# Altium footprint library ADTSM32RVTR.PcbLib: 1 footprints
Each footprint in its own frame and in the unit in brackets; x right, y up, seen from the top. Pads: shape width x height; smd on the part's side, far side on the other; paste and mask are expansions set on the pad; w line width, h text height; cw(c..) or ccw(c..) is an arc to the next point about the centre after c.
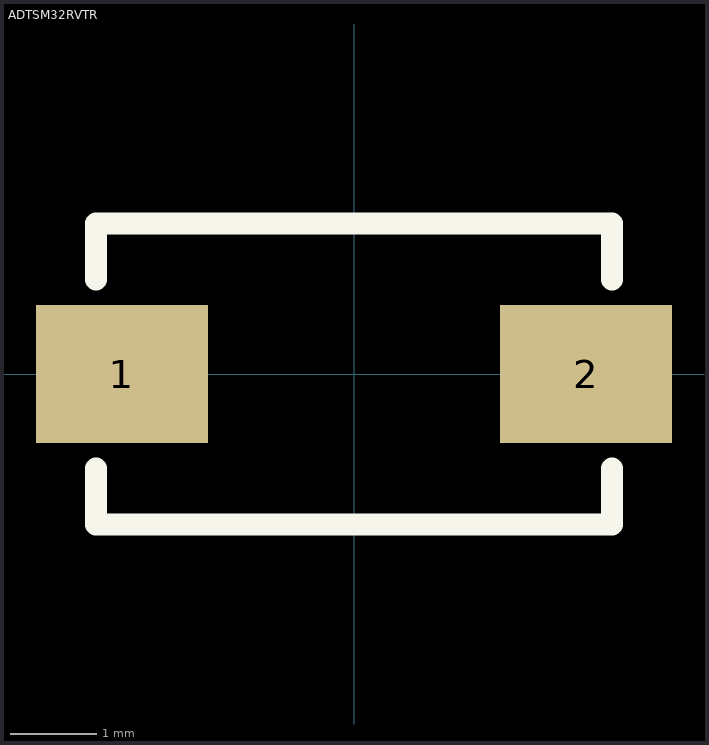
[diagram p0: the footprint, top view; thin cyan lines are the x and y axes]

## ADTSM32RVTR [mm] "ADTSM32RVTR SWITCH, TACTILE, SPST-NO, 50mA, 12VDC SMD"
pads (2):
  rect 2x1.6 smd: 1(-2.7,0) 2(2.7,0)
Top Overlay:
  lines w0.254: -3,-1.1 -3,-1.75 3,-1.75 3,-1.1 ; -3,1.1 -3,1.75 3,1.75 3,1.1
3D body: height 0.1, standoff 0, extent 1,-0.5 3.6,0.5
3D body: height 0.1, standoff 0, extent -2.7,-1.7 2.7,-1
3D body: height 0.1, standoff 0, extent -2.7,1 2.7,1.7
3D body: height 0.1, standoff 0, extent -3.6,-0.5 -1,0.5
3D body: height 4, standoff 0.2, extent -1.504,-0.704 1.504,0.704
3D body: height 3.7, standoff 0.1, extent 2.379,-1.1 3,1.1
3D body: height 3.7, standoff 0.1, extent -3,-1.1 -2.379,1.1
3D body: height 3.4, standoff 0.1, extent -3,-1.75 3,1.75
3D body: height 3.5, standoff 3.4, extent -3,-1.75 3,1.75